# Altium footprint library CMSInductor.PcbLib: 1 footprints
Each footprint in its own frame and in the unit in brackets; x right, y up, seen from the top. Pads: shape width x height; smd on the part's side, far side on the other; paste and mask are expansions set on the pad; w line width, h text height; cw(c..) or ccw(c..) is an arc to the next point about the centre after c.
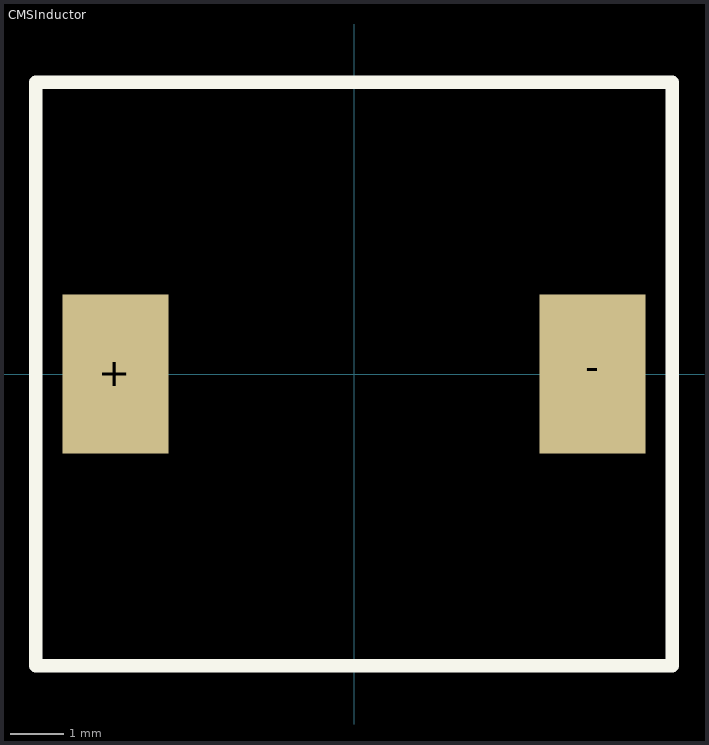
[diagram p0: the footprint, top view; thin cyan lines are the x and y axes]

## CMSInductor [mm]
pads (2):
  rect 2x3 all layers, no hole: +(-4.5,0) -(4.5,0)
Top Overlay:
  lines w0.254: -6,-5.5 -6,5.5 6,5.5 6,-5.5 -6,-5.5